# Altium footprint library PushButton_Series_PCB_ARAF.PcbLib: 1 footprints
Each footprint in its own frame and in the unit in brackets; x right, y up, seen from the top. Pads: shape width x height; smd on the part's side, far side on the other; paste and mask are expansions set on the pad; w line width, h text height; cw(c..) or ccw(c..) is an arc to the next point about the centre after c.
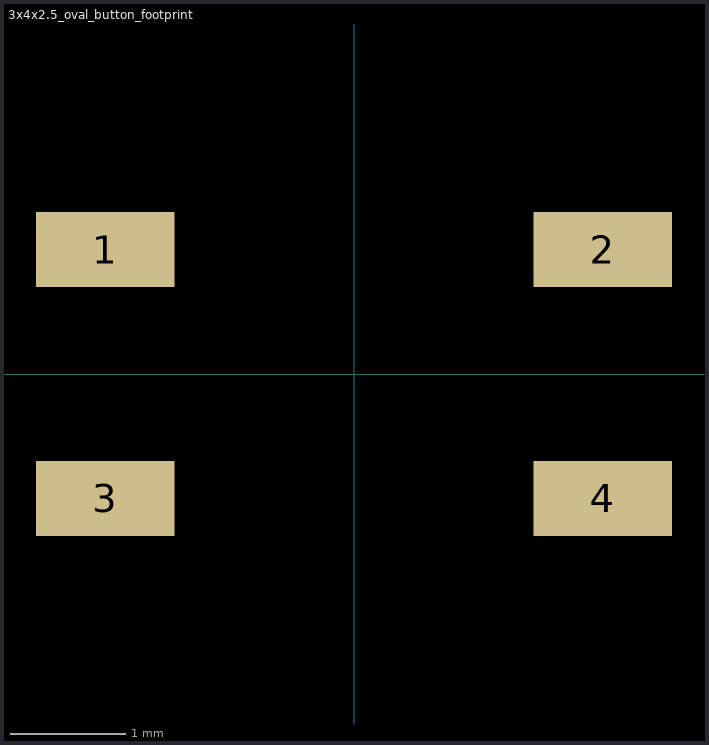
[diagram p0: the footprint, top view; thin cyan lines are the x and y axes]

## 3x4x2.5_oval_button_footprint [mm]
pads (4):
  rect 1.2x0.65 smd mask+0.038: 1(-2.15,1.075) 2(2.15,1.075) 3(-2.15,-1.075) 4(2.15,-1.075)
3D body "3x4x2.5xovalmicrobutton.STEP": height 2.5, standoff -0.1, extent -2.6,-1.7 2.6,1.7